# Altium integrated library 885012004001_Altium_WCAP-CSGP_rev24c.IntLib: 1002 symbols (part 10 of 21)
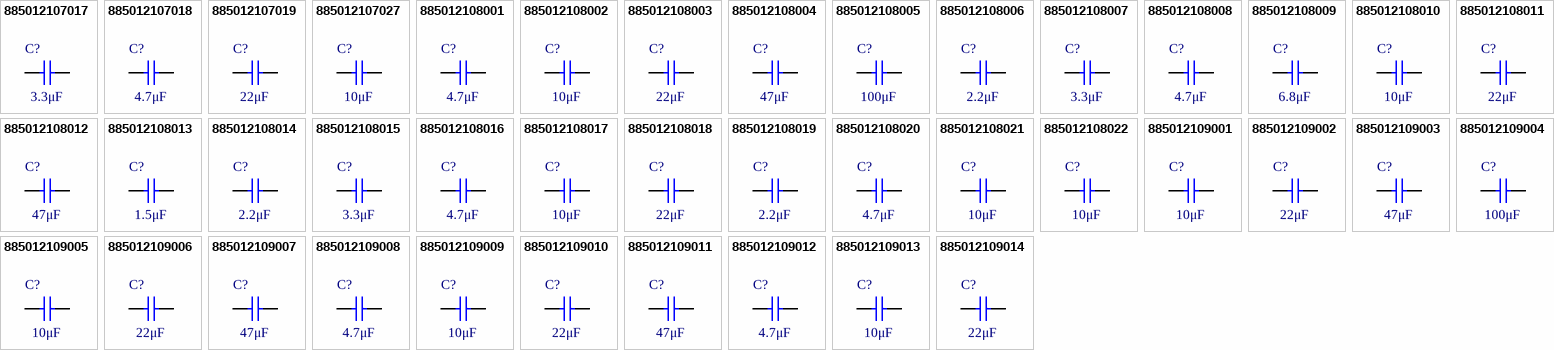
[diagram p34: symbols 885012107017 to 885012109014]

## 885012108005
designator C?, comment 100μF
WCAP-CSGP Multilayer Ceramic Chip Capacitor, General Purpose, size 1206, X5R, 100μF, 6.3V; Manufacturer Part Number: 885012108005; Manufacturer: Wurth Elektronik; Case/Size Code: 1206; Capacitance Tolerance: +/-20%; Dissipation Factor: 10%; Insulation Resistance: 0.001GΩ; Technical Reference: X5R1206107M6R3DFCT10000; Category: Multilayer Ceramic Chip Capacitors; Match Code: WCAP-CSGP; ComponentLink1Description: Website Link; ComponentLink1URL: https://www.we-online.com/redexpert/article/885012108005?ad; ComponentLink2Description: Datasheet Link; ComponentLink2URL: https://www.we-online.com/redexpert/spec/885012108005?ad; Mount: Surface Mount; Min Operating Temperature: -55°C; Max Operating Temperature: 85°C; Packaging: Tape and Reel; Length: 3.2mm; Width: 1.6mm; Height: 1.6mm; Capacitance: 100μF; Ceramic Type: X5R; Rated Voltage (DC): 6.3V
footprint WCAP-CSGP_1206_L3.2W1.6H1.6
simulation model 1206_885012108005_100uF
pins: 1, 2

## 885012108006
designator C?, comment 2.2μF
WCAP-CSGP Multilayer Ceramic Chip Capacitor, General Purpose, size 1206, X5R, 2.2μF, 10V; Manufacturer Part Number: 885012108006; Manufacturer: Wurth Elektronik; Case/Size Code: 1206; Capacitance Tolerance: +/-20%; Dissipation Factor: 10%; Insulation Resistance: 0.2GΩ; Technical Reference: X5R1206225M010DFCT10000; Category: Multilayer Ceramic Chip Capacitors; Match Code: WCAP-CSGP; ComponentLink1Description: Website Link; ComponentLink1URL: https://www.we-online.com/redexpert/article/885012108006?ad; ComponentLink2Description: Datasheet Link; ComponentLink2URL: https://www.we-online.com/redexpert/spec/885012108006?ad; Mount: Surface Mount; Min Operating Temperature: -55°C; Max Operating Temperature: 85°C; Packaging: Tape and Reel; Length: 3.2mm; Width: 1.6mm; Height: 1.15mm; Capacitance: 2.2μF; Ceramic Type: X5R; Rated Voltage (DC): 10V
footprint WCAP-CSGP_1206_L3.2W1.6H1.15
simulation model 1206_885012108006_2.2uF
pins: 1, 2

## 885012108007
designator C?, comment 3.3μF
WCAP-CSGP Multilayer Ceramic Chip Capacitor, General Purpose, size 1206, X5R, 3.3μF, 10V; Manufacturer Part Number: 885012108007; Manufacturer: Wurth Elektronik; Case/Size Code: 1206; Capacitance Tolerance: +/-20%; Dissipation Factor: 10%; Insulation Resistance: 0.2GΩ; Technical Reference: X5R1206335M010DFCT10000; Category: Multilayer Ceramic Chip Capacitors; Match Code: WCAP-CSGP; ComponentLink1Description: Website Link; ComponentLink1URL: https://www.we-online.com/redexpert/article/885012108007?ad; ComponentLink2Description: Datasheet Link; ComponentLink2URL: https://www.we-online.com/redexpert/spec/885012108007?ad; Mount: Surface Mount; Min Operating Temperature: -55°C; Max Operating Temperature: 85°C; Packaging: Tape and Reel; Length: 3.2mm; Width: 1.6mm; Height: 1.6mm; Capacitance: 3.3μF; Ceramic Type: X5R; Rated Voltage (DC): 10V
footprint WCAP-CSGP_1206_L3.2W1.6H1.6
simulation model 1206_885012108007_3.3uF
pins: 1, 2

## 885012108008
designator C?, comment 4.7μF
WCAP-CSGP Multilayer Ceramic Chip Capacitor, General Purpose, size 1206, X5R, 4.7μF, 10V; Manufacturer Part Number: 885012108008; Manufacturer: Wurth Elektronik; Case/Size Code: 1206; Capacitance Tolerance: +/-20%; Dissipation Factor: 10%; Insulation Resistance: 0.02GΩ; Technical Reference: X5R1206475M010DFCT10000; Category: Multilayer Ceramic Chip Capacitors; Match Code: WCAP-CSGP; ComponentLink1Description: Website Link; ComponentLink1URL: https://www.we-online.com/redexpert/article/885012108008?ad; ComponentLink2Description: Datasheet Link; ComponentLink2URL: https://www.we-online.com/redexpert/spec/885012108008?ad; Mount: Surface Mount; Min Operating Temperature: -55°C; Max Operating Temperature: 85°C; Packaging: Tape and Reel; Length: 3.2mm; Width: 1.6mm; Height: 1.6mm; Capacitance: 4.7μF; Ceramic Type: X5R; Rated Voltage (DC): 10V
footprint WCAP-CSGP_1206_L3.2W1.6H1.6
simulation model 1206_885012108008_4.7uF
pins: 1, 2

## 885012108009
designator C?, comment 6.8μF
WCAP-CSGP Multilayer Ceramic Chip Capacitor, General Purpose, size 1206, X5R, 6.8μF, 10V; Manufacturer Part Number: 885012108009; Manufacturer: Wurth Elektronik; Case/Size Code: 1206; Capacitance Tolerance: +/-20%; Dissipation Factor: 10%; Insulation Resistance: 0.02GΩ; Technical Reference: X5R1206685M010DFCT10000; Category: Multilayer Ceramic Chip Capacitors; Match Code: WCAP-CSGP; ComponentLink1Description: Website Link; ComponentLink1URL: https://www.we-online.com/redexpert/article/885012108009?ad; ComponentLink2Description: Datasheet Link; ComponentLink2URL: https://www.we-online.com/redexpert/spec/885012108009?ad; Mount: Surface Mount; Min Operating Temperature: -55°C; Max Operating Temperature: 85°C; Packaging: Tape and Reel; Length: 3.2mm; Width: 1.6mm; Height: 1.6mm; Capacitance: 6.8μF; Ceramic Type: X5R; Rated Voltage (DC): 10V
footprint WCAP-CSGP_1206_L3.2W1.6H1.6
simulation model 1206_885012108009_6.8uF
pins: 1, 2

## 885012108010
designator C?, comment 10μF
WCAP-CSGP Multilayer Ceramic Chip Capacitor, General Purpose, size 1206, X5R, 10μF, 10V; Manufacturer Part Number: 885012108010; Manufacturer: Wurth Elektronik; Case/Size Code: 1206; Capacitance Tolerance: +/-20%; Dissipation Factor: 10%; Insulation Resistance: 0.01GΩ; Technical Reference: X5R1206106M010DFCT10000; Category: Multilayer Ceramic Chip Capacitors; Match Code: WCAP-CSGP; ComponentLink1Description: Website Link; ComponentLink1URL: https://www.we-online.com/redexpert/article/885012108010?ad; ComponentLink2Description: Datasheet Link; ComponentLink2URL: https://www.we-online.com/redexpert/spec/885012108010?ad; Mount: Surface Mount; Min Operating Temperature: -55°C; Max Operating Temperature: 85°C; Packaging: Tape and Reel; Length: 3.2mm; Width: 1.6mm; Height: 1.6mm; Capacitance: 10μF; Ceramic Type: X5R; Rated Voltage (DC): 10V
footprint WCAP-CSGP_1206_L3.2W1.6H1.6
simulation model 1206_885012108010_10uF
pins: 1, 2

## 885012108011
designator C?, comment 22μF
WCAP-CSGP Multilayer Ceramic Chip Capacitor, General Purpose, size 1206, X5R, 22μF, 10V; Manufacturer Part Number: 885012108011; Manufacturer: Wurth Elektronik; Case/Size Code: 1206; Capacitance Tolerance: +/-20%; Dissipation Factor: 10%; Insulation Resistance: 0.005GΩ; Technical Reference: X5R1206226M010DFCT10000; Category: Multilayer Ceramic Chip Capacitors; Match Code: WCAP-CSGP; ComponentLink1Description: Website Link; ComponentLink1URL: https://www.we-online.com/redexpert/article/885012108011?ad; ComponentLink2Description: Datasheet Link; ComponentLink2URL: https://www.we-online.com/redexpert/spec/885012108011?ad; Mount: Surface Mount; Min Operating Temperature: -55°C; Max Operating Temperature: 85°C; Packaging: Tape and Reel; Length: 3.2mm; Width: 1.6mm; Height: 1.6mm; Capacitance: 22μF; Ceramic Type: X5R; Rated Voltage (DC): 10V
footprint WCAP-CSGP_1206_L3.2W1.6H1.6
simulation model 1206_885012108011_22uF
pins: 1, 2

## 885012108012
designator C?, comment 47μF
WCAP-CSGP Multilayer Ceramic Chip Capacitor, General Purpose, size 1206, X5R, 47μF, 10V; Manufacturer Part Number: 885012108012; Manufacturer: Wurth Elektronik; Case/Size Code: 1206; Capacitance Tolerance: +/-20%; Dissipation Factor: 10%; Insulation Resistance: 0.002GΩ; Technical Reference: X5R1206476M010DFCT10000; Category: Multilayer Ceramic Chip Capacitors; Match Code: WCAP-CSGP; ComponentLink1Description: Website Link; ComponentLink1URL: https://www.we-online.com/redexpert/article/885012108012?ad; ComponentLink2Description: Datasheet Link; ComponentLink2URL: https://www.we-online.com/redexpert/spec/885012108012?ad; Mount: Surface Mount; Min Operating Temperature: -55°C; Max Operating Temperature: 85°C; Packaging: Tape and Reel; Length: 3.2mm; Width: 1.6mm; Height: 1.6mm; Capacitance: 47μF; Ceramic Type: X5R; Rated Voltage (DC): 10V
footprint WCAP-CSGP_1206_L3.2W1.6H1.6
simulation model 1206_885012108012_47uF
pins: 1, 2

## 885012108013
designator C?, comment 1.5μF
WCAP-CSGP Multilayer Ceramic Chip Capacitor, General Purpose, size 1206, X5R, 1.5μF, 16V; Manufacturer Part Number: 885012108013; Manufacturer: Wurth Elektronik; Case/Size Code: 1206; Capacitance Tolerance: +/-20%; Dissipation Factor: 3.5%; Insulation Resistance: 0.3GΩ; Technical Reference: X5R1206155M016DFCT10000; Category: Multilayer Ceramic Chip Capacitors; Match Code: WCAP-CSGP; ComponentLink1Description: Website Link; ComponentLink1URL: https://www.we-online.com/redexpert/article/885012108013?ad; ComponentLink2Description: Datasheet Link; ComponentLink2URL: https://www.we-online.com/redexpert/spec/885012108013?ad; Mount: Surface Mount; Min Operating Temperature: -55°C; Max Operating Temperature: 85°C; Packaging: Tape and Reel; Length: 3.2mm; Width: 1.6mm; Height: 1.15mm; Capacitance: 1.5μF; Ceramic Type: X5R; Rated Voltage (DC): 16V
footprint WCAP-CSGP_1206_L3.2W1.6H1.15
simulation model 1206_885012108013_1.5uF
pins: 1, 2

## 885012108014
designator C?, comment 2.2μF
WCAP-CSGP Multilayer Ceramic Chip Capacitor, General Purpose, size 1206, X5R, 2.2μF, 16V; Manufacturer Part Number: 885012108014; Manufacturer: Wurth Elektronik; Case/Size Code: 1206; Capacitance Tolerance: +/-20%; Dissipation Factor: 5%; Insulation Resistance: 0.2GΩ; Technical Reference: X5R1206225M016DFCT10000; Category: Multilayer Ceramic Chip Capacitors; Match Code: WCAP-CSGP; ComponentLink1Description: Website Link; ComponentLink1URL: https://www.we-online.com/redexpert/article/885012108014?ad; ComponentLink2Description: Datasheet Link; ComponentLink2URL: https://www.we-online.com/redexpert/spec/885012108014?ad; Mount: Surface Mount; Min Operating Temperature: -55°C; Max Operating Temperature: 85°C; Packaging: Tape and Reel; Length: 3.2mm; Width: 1.6mm; Height: 1.15mm; Capacitance: 2.2μF; Ceramic Type: X5R; Rated Voltage (DC): 16V
footprint WCAP-CSGP_1206_L3.2W1.6H1.15
simulation model 1206_885012108014_2.2uF
pins: 1, 2

## 885012108015
designator C?, comment 3.3μF
WCAP-CSGP Multilayer Ceramic Chip Capacitor, General Purpose, size 1206, X5R, 3.3μF, 16V; Manufacturer Part Number: 885012108015; Manufacturer: Wurth Elektronik; Case/Size Code: 1206; Capacitance Tolerance: +/-20%; Dissipation Factor: 5%; Insulation Resistance: 0.2GΩ; Technical Reference: X5R1206335M016DFCT10000; Category: Multilayer Ceramic Chip Capacitors; Match Code: WCAP-CSGP; ComponentLink1Description: Website Link; ComponentLink1URL: https://www.we-online.com/redexpert/article/885012108015?ad; ComponentLink2Description: Datasheet Link; ComponentLink2URL: https://www.we-online.com/redexpert/spec/885012108015?ad; Mount: Surface Mount; Min Operating Temperature: -55°C; Max Operating Temperature: 85°C; Packaging: Tape and Reel; Length: 3.2mm; Width: 1.6mm; Height: 1.6mm; Capacitance: 3.3μF; Ceramic Type: X5R; Rated Voltage (DC): 16V
footprint WCAP-CSGP_1206_L3.2W1.6H1.6
simulation model 1206_885012108015_3.3uF
pins: 1, 2

## 885012108016
designator C?, comment 4.7μF
WCAP-CSGP Multilayer Ceramic Chip Capacitor, General Purpose, size 1206, X5R, 4.7μF, 16V; Manufacturer Part Number: 885012108016; Manufacturer: Wurth Elektronik; Case/Size Code: 1206; Capacitance Tolerance: +/-20%; Dissipation Factor: 10%; Insulation Resistance: 0.1GΩ; Technical Reference: X5R1206475M016DFCT10000; Category: Multilayer Ceramic Chip Capacitors; Match Code: WCAP-CSGP; ComponentLink1Description: Website Link; ComponentLink1URL: https://www.we-online.com/redexpert/article/885012108016?ad; ComponentLink2Description: Datasheet Link; ComponentLink2URL: https://www.we-online.com/redexpert/spec/885012108016?ad; Mount: Surface Mount; Min Operating Temperature: -55°C; Max Operating Temperature: 85°C; Packaging: Tape and Reel; Length: 3.2mm; Width: 1.6mm; Height: 1.6mm; Capacitance: 4.7μF; Ceramic Type: X5R; Rated Voltage (DC): 16V
footprint WCAP-CSGP_1206_L3.2W1.6H1.6
simulation model 1206_885012108016_4.7uF
pins: 1, 2

## 885012108017
designator C?, comment 10μF
WCAP-CSGP Multilayer Ceramic Chip Capacitor, General Purpose, size 1206, X5R, 10μF, 16V; Manufacturer Part Number: 885012108017; Manufacturer: Wurth Elektronik; Case/Size Code: 1206; Capacitance Tolerance: +/-20%; Dissipation Factor: 10%; Insulation Resistance: 0.01GΩ; Technical Reference: X5R1206106M016DFCT10000; Category: Multilayer Ceramic Chip Capacitors; Match Code: WCAP-CSGP; ComponentLink1Description: Website Link; ComponentLink1URL: https://www.we-online.com/redexpert/article/885012108017?ad; ComponentLink2Description: Datasheet Link; ComponentLink2URL: https://www.we-online.com/redexpert/spec/885012108017?ad; Mount: Surface Mount; Min Operating Temperature: -55°C; Max Operating Temperature: 85°C; Packaging: Tape and Reel; Length: 3.2mm; Width: 1.6mm; Height: 1.6mm; Capacitance: 10μF; Ceramic Type: X5R; Rated Voltage (DC): 16V
footprint WCAP-CSGP_1206_L3.2W1.6H1.6
simulation model 1206_885012108017_10uF
pins: 1, 2

## 885012108018
designator C?, comment 22μF
WCAP-CSGP Multilayer Ceramic Chip Capacitor, General Purpose, size 1206, X5R, 22μF, 16V; Manufacturer Part Number: 885012108018; Manufacturer: Wurth Elektronik; Case/Size Code: 1206; Capacitance Tolerance: +/-20%; Dissipation Factor: 10%; Insulation Resistance: 0.005GΩ; Technical Reference: X5R1206226M016DFCT10000; Category: Multilayer Ceramic Chip Capacitors; Match Code: WCAP-CSGP; ComponentLink1Description: Website Link; ComponentLink1URL: https://www.we-online.com/redexpert/article/885012108018?ad; ComponentLink2Description: Datasheet Link; ComponentLink2URL: https://www.we-online.com/redexpert/spec/885012108018?ad; Mount: Surface Mount; Min Operating Temperature: -55°C; Max Operating Temperature: 85°C; Packaging: Tape and Reel; Length: 3.2mm; Width: 1.6mm; Height: 1.6mm; Capacitance: 22μF; Ceramic Type: X5R; Rated Voltage (DC): 16V
footprint WCAP-CSGP_1206_L3.2W1.6H1.6
simulation model 1206_885012108018_22uF
pins: 1, 2

## 885012108019
designator C?, comment 2.2μF
WCAP-CSGP Multilayer Ceramic Chip Capacitor, General Purpose, size 1206, X5R, 2.2μF, 25V; Manufacturer Part Number: 885012108019; Manufacturer: Wurth Elektronik; Case/Size Code: 1206; Capacitance Tolerance: +/-20%; Dissipation Factor: 3.5%; Insulation Resistance: 0.2GΩ; Technical Reference: X5R1206225M025DFCT10000; Category: Multilayer Ceramic Chip Capacitors; Match Code: WCAP-CSGP; ComponentLink1Description: Website Link; ComponentLink1URL: https://www.we-online.com/redexpert/article/885012108019?ad; ComponentLink2Description: Datasheet Link; ComponentLink2URL: https://www.we-online.com/redexpert/spec/885012108019?ad; Mount: Surface Mount; Min Operating Temperature: -55°C; Max Operating Temperature: 85°C; Packaging: Tape and Reel; Length: 3.2mm; Width: 1.6mm; Height: 1.6mm; Capacitance: 2.2μF; Ceramic Type: X5R; Rated Voltage (DC): 25V
footprint WCAP-CSGP_1206_L3.2W1.6H1.6
simulation model 1206_885012108019_2.2uF
pins: 1, 2

## 885012108020
designator C?, comment 4.7μF
WCAP-CSGP Multilayer Ceramic Chip Capacitor, General Purpose, size 1206, X5R, 4.7μF, 25V; Manufacturer Part Number: 885012108020; Manufacturer: Wurth Elektronik; Case/Size Code: 1206; Capacitance Tolerance: +/-20%; Dissipation Factor: 7%; Insulation Resistance: 0.1GΩ; Technical Reference: X5R1206475M025DFCT10000; Category: Multilayer Ceramic Chip Capacitors; Match Code: WCAP-CSGP; ComponentLink1Description: Website Link; ComponentLink1URL: https://www.we-online.com/redexpert/article/885012108020?ad; ComponentLink2Description: Datasheet Link; ComponentLink2URL: https://www.we-online.com/redexpert/spec/885012108020?ad; Mount: Surface Mount; Min Operating Temperature: -55°C; Max Operating Temperature: 85°C; Packaging: Tape and Reel; Length: 3.2mm; Width: 1.6mm; Height: 1.6mm; Capacitance: 4.7μF; Ceramic Type: X5R; Rated Voltage (DC): 25V
footprint WCAP-CSGP_1206_L3.2W1.6H1.6
simulation model 1206_885012108020_4.7uF
pins: 1, 2

## 885012108021
designator C?, comment 10μF
WCAP-CSGP Multilayer Ceramic Chip Capacitor, General Purpose, size 1206, X5R, 10μF, 25V; Manufacturer Part Number: 885012108021; Manufacturer: Wurth Elektronik; Case/Size Code: 1206; Capacitance Tolerance: +/-20%; Dissipation Factor: 10%; Insulation Resistance: 0.01GΩ; Technical Reference: X5R1206106M025DFCT10000; Category: Multilayer Ceramic Chip Capacitors; Match Code: WCAP-CSGP; ComponentLink1Description: Website Link; ComponentLink1URL: https://www.we-online.com/redexpert/article/885012108021?ad; ComponentLink2Description: Datasheet Link; ComponentLink2URL: https://www.we-online.com/redexpert/spec/885012108021?ad; Mount: Surface Mount; Min Operating Temperature: -55°C; Max Operating Temperature: 85°C; Packaging: Tape and Reel; Length: 3.2mm; Width: 1.6mm; Height: 1.6mm; Capacitance: 10μF; Ceramic Type: X5R; Rated Voltage (DC): 25V
footprint WCAP-CSGP_1206_L3.2W1.6H1.6
simulation model 1206_885012108021_10uF
pins: 1, 2

## 885012108022
designator C?, comment 10μF
WCAP-CSGP Multilayer Ceramic Chip Capacitor, General Purpose, size 1206, X5R, 10μF, 50V; Manufacturer Part Number: 885012108022; Manufacturer: Wurth Elektronik; Case/Size Code: 1206; Capacitance Tolerance: +/-10%; Dissipation Factor: 10%; Insulation Resistance: 0.005GΩ; Technical Reference: X5R1206106K050DFCT10000; Category: Multilayer Ceramic Chip Capacitors; Match Code: WCAP-CSGP; ComponentLink1Description: Website Link; ComponentLink1URL: https://www.we-online.com/redexpert/article/885012108022?ad; ComponentLink2Description: Datasheet Link; ComponentLink2URL: https://www.we-online.com/redexpert/spec/885012108022?ad; Mount: Surface Mount; Min Operating Temperature: -55°C; Max Operating Temperature: 85°C; Packaging: Tape and Reel; Length: 3.2mm; Width: 1.6mm; Height: 1.6mm; Capacitance: 10μF; Ceramic Type: X5R; Rated Voltage (DC): 50V
footprint WCAP-CSGP_1206_L3.2W1.6H1.6
simulation model 1206_885012108022_10uF
pins: 1, 2

## 885012109001
designator C?, comment 10μF
WCAP-CSGP Multilayer Ceramic Chip Capacitor, General Purpose, size 1210, X5R, 10μF, 6V; Manufacturer Part Number: 885012109001; Manufacturer: Wurth Elektronik; Case/Size Code: 1210; Capacitance Tolerance: +/-20%; Dissipation Factor: 10%; Insulation Resistance: 0.01GΩ; Technical Reference: X5R1210106M6R3DFCT10000; Category: Multilayer Ceramic Chip Capacitors; Match Code: WCAP-CSGP; ComponentLink1Description: Website Link; ComponentLink1URL: https://www.we-online.com/redexpert/article/885012109001?ad; ComponentLink2Description: Datasheet Link; ComponentLink2URL: https://www.we-online.com/redexpert/spec/885012109001?ad; Mount: Surface Mount; Min Operating Temperature: -55°C; Max Operating Temperature: 85°C; Packaging: Tape and Reel; Length: 3.2mm; Width: 2.5mm; Height: 2mm; Capacitance: 10μF; Ceramic Type: X5R; Rated Voltage (DC): 6V
footprint WCAP-CSGP_1210_L3.2W2.5H2
simulation model 1210_885012109001_10uF
pins: 1, 2

## 885012109002
designator C?, comment 22μF
WCAP-CSGP Multilayer Ceramic Chip Capacitor, General Purpose, size 1210, X5R, 22μF, 6V; Manufacturer Part Number: 885012109002; Manufacturer: Wurth Elektronik; Case/Size Code: 1210; Capacitance Tolerance: +/-20%; Dissipation Factor: 10%; Insulation Resistance: 0.005GΩ; Technical Reference: X5R1210226M6R3DFCT10000; Category: Multilayer Ceramic Chip Capacitors; Match Code: WCAP-CSGP; ComponentLink1Description: Website Link; ComponentLink1URL: https://www.we-online.com/redexpert/article/885012109002?ad; ComponentLink2Description: Datasheet Link; ComponentLink2URL: https://www.we-online.com/redexpert/spec/885012109002?ad; Mount: Surface Mount; Min Operating Temperature: -55°C; Max Operating Temperature: 85°C; Packaging: Tape and Reel; Length: 3.2mm; Width: 2.5mm; Height: 2.5mm; Capacitance: 22μF; Ceramic Type: X5R; Rated Voltage (DC): 6V
footprint WCAP-CSGP_1210_L3.2W2.5H2.5
simulation model 1210_885012109002_22uF
pins: 1, 2

## 885012109003
designator C?, comment 47μF
WCAP-CSGP Multilayer Ceramic Chip Capacitor, General Purpose, size 1210, X5R, 47μF, 6V; Manufacturer Part Number: 885012109003; Manufacturer: Wurth Elektronik; Case/Size Code: 1210; Capacitance Tolerance: +/-20%; Dissipation Factor: 10%; Insulation Resistance: 0.002GΩ; Technical Reference: X5R1210476M6R3DFCT10000; Category: Multilayer Ceramic Chip Capacitors; Match Code: WCAP-CSGP; ComponentLink1Description: Website Link; ComponentLink1URL: https://www.we-online.com/redexpert/article/885012109003?ad; ComponentLink2Description: Datasheet Link; ComponentLink2URL: https://www.we-online.com/redexpert/spec/885012109003?ad; Mount: Surface Mount; Min Operating Temperature: -55°C; Max Operating Temperature: 85°C; Packaging: Tape and Reel; Length: 3.2mm; Width: 2.5mm; Height: 2.5mm; Capacitance: 47μF; Ceramic Type: X5R; Rated Voltage (DC): 6V
footprint WCAP-CSGP_1210_L3.2W2.5H2.5
simulation model 1210_885012109003_47uF
pins: 1, 2

## 885012109004
designator C?, comment 100μF
WCAP-CSGP Multilayer Ceramic Chip Capacitor, General Purpose, size 1210, X5R, 100μF, 6V; Manufacturer Part Number: 885012109004; Manufacturer: Wurth Elektronik; Case/Size Code: 1210; Capacitance Tolerance: +/-20%; Dissipation Factor: 10%; Insulation Resistance: 0.001GΩ; Technical Reference: X5R1210107M6R3DFCT10000; Category: Multilayer Ceramic Chip Capacitors; Match Code: WCAP-CSGP; ComponentLink1Description: Website Link; ComponentLink1URL: https://www.we-online.com/redexpert/article/885012109004?ad; ComponentLink2Description: Datasheet Link; ComponentLink2URL: https://www.we-online.com/redexpert/spec/885012109004?ad; Mount: Surface Mount; Min Operating Temperature: -55°C; Max Operating Temperature: 85°C; Packaging: Tape and Reel; Length: 3.2mm; Width: 2.5mm; Height: 2.5mm; Capacitance: 100μF; Ceramic Type: X5R; Rated Voltage (DC): 6V
footprint WCAP-CSGP_1210_L3.2W2.5H2.5
simulation model 1210_885012109004_100uF
pins: 1, 2

## 885012109005
designator C?, comment 10μF
WCAP-CSGP Multilayer Ceramic Chip Capacitor, General Purpose, size 1210, X5R, 10μF, 10V; Manufacturer Part Number: 885012109005; Manufacturer: Wurth Elektronik; Case/Size Code: 1210; Capacitance Tolerance: +/-20%; Dissipation Factor: 5%; Insulation Resistance: 0.05GΩ; Technical Reference: X5R1210106M010DFCT10000; Category: Multilayer Ceramic Chip Capacitors; Match Code: WCAP-CSGP; ComponentLink1Description: Website Link; ComponentLink1URL: https://www.we-online.com/redexpert/article/885012109005?ad; ComponentLink2Description: Datasheet Link; ComponentLink2URL: https://www.we-online.com/redexpert/spec/885012109005?ad; Mount: Surface Mount; Min Operating Temperature: -55°C; Max Operating Temperature: 85°C; Packaging: Tape and Reel; Length: 3.2mm; Width: 2.5mm; Height: 2mm; Capacitance: 10μF; Ceramic Type: X5R; Rated Voltage (DC): 10V
footprint WCAP-CSGP_1210_L3.2W2.5H2
simulation model 1210_885012109005_10uF
pins: 1, 2

## 885012109006
designator C?, comment 22μF
WCAP-CSGP Multilayer Ceramic Chip Capacitor, General Purpose, size 1210, X5R, 22μF, 10V; Manufacturer Part Number: 885012109006; Manufacturer: Wurth Elektronik; Case/Size Code: 1210; Capacitance Tolerance: +/-20%; Dissipation Factor: 10%; Insulation Resistance: 0.02GΩ; Technical Reference: X5R1210226M010DFCT10000; Category: Multilayer Ceramic Chip Capacitors; Match Code: WCAP-CSGP; ComponentLink1Description: Website Link; ComponentLink1URL: https://www.we-online.com/redexpert/article/885012109006?ad; ComponentLink2Description: Datasheet Link; ComponentLink2URL: https://www.we-online.com/redexpert/spec/885012109006?ad; Mount: Surface Mount; Min Operating Temperature: -55°C; Max Operating Temperature: 85°C; Packaging: Tape and Reel; Length: 3.2mm; Width: 2.5mm; Height: 2.5mm; Capacitance: 22μF; Ceramic Type: X5R; Rated Voltage (DC): 10V
footprint WCAP-CSGP_1210_L3.2W2.5H2.5
simulation model 1210_885012109006_22uF
pins: 1, 2

## 885012109007
designator C?, comment 47μF
WCAP-CSGP Multilayer Ceramic Chip Capacitor, General Purpose, size 1210, X5R, 47μF, 10V; Manufacturer Part Number: 885012109007; Manufacturer: Wurth Elektronik; Case/Size Code: 1210; Capacitance Tolerance: +/-20%; Dissipation Factor: 10%; Insulation Resistance: 0.002GΩ; Technical Reference: X5R1210476M010DFCT10000; Category: Multilayer Ceramic Chip Capacitors; Match Code: WCAP-CSGP; ComponentLink1Description: Website Link; ComponentLink1URL: https://www.we-online.com/redexpert/article/885012109007?ad; ComponentLink2Description: Datasheet Link; ComponentLink2URL: https://www.we-online.com/redexpert/spec/885012109007?ad; Mount: Surface Mount; Min Operating Temperature: -55°C; Max Operating Temperature: 85°C; Packaging: Tape and Reel; Length: 3.2mm; Width: 2.5mm; Height: 2.5mm; Capacitance: 47μF; Ceramic Type: X5R; Rated Voltage (DC): 10V
footprint WCAP-CSGP_1210_L3.2W2.5H2.5
simulation model 1210_885012109007_47uF
pins: 1, 2

## 885012109008
designator C?, comment 4.7μF
WCAP-CSGP Multilayer Ceramic Chip Capacitor, General Purpose, size 1210, X5R, 4.7μF, 16V; Manufacturer Part Number: 885012109008; Manufacturer: Wurth Elektronik; Case/Size Code: 1210; Capacitance Tolerance: +/-20%; Dissipation Factor: 5%; Insulation Resistance: 0.1GΩ; Technical Reference: X5R1210475M016DFCT10000; Category: Multilayer Ceramic Chip Capacitors; Match Code: WCAP-CSGP; ComponentLink1Description: Website Link; ComponentLink1URL: https://www.we-online.com/redexpert/article/885012109008?ad; ComponentLink2Description: Datasheet Link; ComponentLink2URL: https://www.we-online.com/redexpert/spec/885012109008?ad; Mount: Surface Mount; Min Operating Temperature: -55°C; Max Operating Temperature: 85°C; Packaging: Tape and Reel; Length: 3.2mm; Width: 2.5mm; Height: 2mm; Capacitance: 4.7μF; Ceramic Type: X5R; Rated Voltage (DC): 16V
footprint WCAP-CSGP_1210_L3.2W2.5H2
simulation model 1210_885012109008_4.7uF
pins: 1, 2

## 885012109009
designator C?, comment 10μF
WCAP-CSGP Multilayer Ceramic Chip Capacitor, General Purpose, size 1210, X5R, 10μF, 16V; Manufacturer Part Number: 885012109009; Manufacturer: Wurth Elektronik; Case/Size Code: 1210; Capacitance Tolerance: +/-20%; Dissipation Factor: 5%; Insulation Resistance: 0.05GΩ; Technical Reference: X5R1210106M016DFCT10000; Category: Multilayer Ceramic Chip Capacitors; Match Code: WCAP-CSGP; ComponentLink1Description: Website Link; ComponentLink1URL: https://www.we-online.com/redexpert/article/885012109009?ad; ComponentLink2Description: Datasheet Link; ComponentLink2URL: https://www.we-online.com/redexpert/spec/885012109009?ad; Mount: Surface Mount; Min Operating Temperature: -55°C; Max Operating Temperature: 85°C; Packaging: Tape and Reel; Length: 3.2mm; Width: 2.5mm; Height: 2mm; Capacitance: 10μF; Ceramic Type: X5R; Rated Voltage (DC): 16V
footprint WCAP-CSGP_1210_L3.2W2.5H2
simulation model 1210_885012109009_10uF
pins: 1, 2

## 885012109010
designator C?, comment 22μF
WCAP-CSGP Multilayer Ceramic Chip Capacitor, General Purpose, size 1210, X5R, 22μF, 16V; Manufacturer Part Number: 885012109010; Manufacturer: Wurth Elektronik; Case/Size Code: 1210; Capacitance Tolerance: +/-20%; Dissipation Factor: 10%; Insulation Resistance: 0.02GΩ; Technical Reference: X5R1210226M016DFCT10000; Category: Multilayer Ceramic Chip Capacitors; Match Code: WCAP-CSGP; ComponentLink1Description: Website Link; ComponentLink1URL: https://www.we-online.com/redexpert/article/885012109010?ad; ComponentLink2Description: Datasheet Link; ComponentLink2URL: https://www.we-online.com/redexpert/spec/885012109010?ad; Mount: Surface Mount; Min Operating Temperature: -55°C; Max Operating Temperature: 85°C; Packaging: Tape and Reel; Length: 3.2mm; Width: 2.5mm; Height: 2.5mm; Capacitance: 22μF; Ceramic Type: X5R; Rated Voltage (DC): 16V
footprint WCAP-CSGP_1210_L3.2W2.5H2.5
simulation model 1210_885012109010_22uF
pins: 1, 2

## 885012109011
designator C?, comment 47μF
WCAP-CSGP Multilayer Ceramic Chip Capacitor, General Purpose, size 1210, X5R, 47μF, 16V; Manufacturer Part Number: 885012109011; Manufacturer: Wurth Elektronik; Case/Size Code: 1210; Capacitance Tolerance: +/-20%; Dissipation Factor: 10%; Insulation Resistance: 0.002GΩ; Technical Reference: X5R1210476M016DFCT10000; Category: Multilayer Ceramic Chip Capacitors; Match Code: WCAP-CSGP; ComponentLink1Description: Website Link; ComponentLink1URL: https://www.we-online.com/redexpert/article/885012109011?ad; ComponentLink2Description: Datasheet Link; ComponentLink2URL: https://www.we-online.com/redexpert/spec/885012109011?ad; Mount: Surface Mount; Min Operating Temperature: -55°C; Max Operating Temperature: 85°C; Packaging: Tape and Reel; Length: 3.2mm; Width: 2.5mm; Height: 2.5mm; Capacitance: 47μF; Ceramic Type: X5R; Rated Voltage (DC): 16V
footprint WCAP-CSGP_1210_L3.2W2.5H2.5
simulation model 1210_885012109011_47uF
pins: 1, 2

## 885012109012
designator C?, comment 4.7μF
WCAP-CSGP Multilayer Ceramic Chip Capacitor, General Purpose, size 1210, X5R, 4.7μF, 25V; Manufacturer Part Number: 885012109012; Manufacturer: Wurth Elektronik; Case/Size Code: 1210; Capacitance Tolerance: +/-20%; Dissipation Factor: 3.5%; Insulation Resistance: 0.1GΩ; Technical Reference: X5R1210475M025DFCT10000; Category: Multilayer Ceramic Chip Capacitors; Match Code: WCAP-CSGP; ComponentLink1Description: Website Link; ComponentLink1URL: https://www.we-online.com/redexpert/article/885012109012?ad; ComponentLink2Description: Datasheet Link; ComponentLink2URL: https://www.we-online.com/redexpert/spec/885012109012?ad; Mount: Surface Mount; Min Operating Temperature: -55°C; Max Operating Temperature: 85°C; Packaging: Tape and Reel; Length: 3.2mm; Width: 2.5mm; Height: 2mm; Capacitance: 4.7μF; Ceramic Type: X5R; Rated Voltage (DC): 25V
footprint WCAP-CSGP_1210_L3.2W2.5H2
simulation model 1210_885012109012_4.7uF
pins: 1, 2

## 885012109013
designator C?, comment 10μF
WCAP-CSGP Multilayer Ceramic Chip Capacitor, General Purpose, size 1210, X5R, 10μF, 25V; Manufacturer Part Number: 885012109013; Manufacturer: Wurth Elektronik; Case/Size Code: 1210; Capacitance Tolerance: +/-20%; Dissipation Factor: 10%; Insulation Resistance: 0.01GΩ; Technical Reference: X5R1210106M025DFCT10000; Category: Multilayer Ceramic Chip Capacitors; Match Code: WCAP-CSGP; ComponentLink1Description: Website Link; ComponentLink1URL: https://www.we-online.com/redexpert/article/885012109013?ad; ComponentLink2Description: Datasheet Link; ComponentLink2URL: https://www.we-online.com/redexpert/spec/885012109013?ad; Mount: Surface Mount; Min Operating Temperature: -55°C; Max Operating Temperature: 85°C; Packaging: Tape and Reel; Length: 3.2mm; Width: 2.5mm; Height: 2mm; Capacitance: 10μF; Ceramic Type: X5R; Rated Voltage (DC): 25V
footprint WCAP-CSGP_1210_L3.2W2.5H2
simulation model 1210_885012109013_10uF
pins: 1, 2

## 885012109014
designator C?, comment 22μF
WCAP-CSGP Multilayer Ceramic Chip Capacitor, General Purpose, size 1210, X5R, 22μF, 25V; Manufacturer Part Number: 885012109014; Manufacturer: Wurth Elektronik; Case/Size Code: 1210; Capacitance Tolerance: +/-20%; Dissipation Factor: 10%; Insulation Resistance: 0.005GΩ; Technical Reference: X5R1210226M025DFCT10000; Category: Multilayer Ceramic Chip Capacitors; Match Code: WCAP-CSGP; ComponentLink1Description: Website Link; ComponentLink1URL: https://www.we-online.com/redexpert/article/885012109014?ad; ComponentLink2Description: Datasheet Link; ComponentLink2URL: https://www.we-online.com/redexpert/spec/885012109014?ad; Mount: Surface Mount; Min Operating Temperature: -55°C; Max Operating Temperature: 85°C; Packaging: Tape and Reel; Length: 3.2mm; Width: 2.5mm; Height: 2.5mm; Capacitance: 22μF; Ceramic Type: X5R; Rated Voltage (DC): 25V
footprint WCAP-CSGP_1210_L3.2W2.5H2.5
simulation model 1210_885012109014_22uF
pins: 1, 2

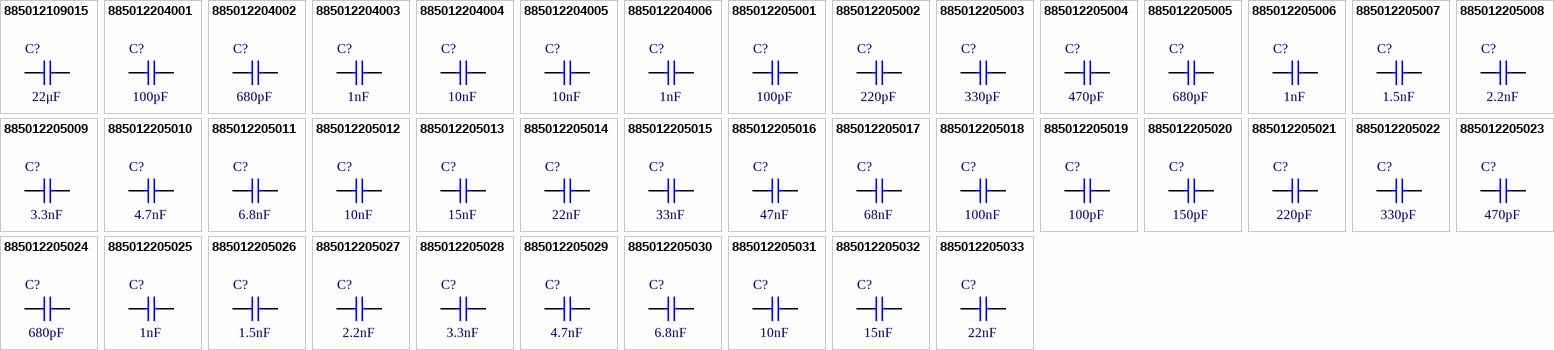
[diagram p12: symbols 885012109015 to 885012205033]

## 885012109015
designator C?, comment 22μF
WCAP-CSGP Multilayer Ceramic Chip Capacitor, General Purpose, size 1210, X5R Class II, 22μF, 25V; Manufacturer Part Number: 885012109015; Manufacturer: Wurth Elektronik; Case/Size Code: 1210; Capacitance Tolerance: +/-10%; Dissipation Factor: 10%; Insulation Resistance: 0.005GΩ; Technical Reference: X5R1210226K025DFCT10000; Category: Multilayer Ceramic Chip Capacitors; Match Code: WCAP-CSGP; ComponentLink1Description: Website Link; ComponentLink1URL: https://www.we-online.com/redexpert/article/885012109015?ad; ComponentLink2Description: Datasheet Link; ComponentLink2URL: https://www.we-online.com/redexpert/spec/885012109015?ad; Mount: Surface Mount; Min Operating Temperature: -55°C; Max Operating Temperature: 85°C; Packaging: Tape and Reel; Length: 3.2mm; Width: 2.5mm; Height: 2.5mm; Capacitance: 22μF; Ceramic Type: X5R Class II; Rated Voltage (DC): 25V
footprint WCAP-CSGP_1210_L3.2W2.5H2.5
simulation model 1210_885012109015_22uF
pins: 1, 2

## 885012204001
designator C?, comment 100pF
WCAP-CSGP Multilayer Ceramic Chip Capacitor, General Purpose, size 0201, X7R Class II, 100pF, 50V; Manufacturer Part Number: 885012204001; Manufacturer: Wurth Elektronik; Case/Size Code: 0201; Capacitance Tolerance: +/-10%; Dissipation Factor: 3%; Insulation Resistance: 10GΩ; Technical Reference: X7R0201101K050DFCT10000; Category: Multilayer Ceramic Chip Capacitors; Match Code: WCAP-CSGP; ComponentLink1Description: Website Link; ComponentLink1URL: https://www.we-online.com/redexpert/article/885012204001?ad; ComponentLink2Description: Datasheet Link; ComponentLink2URL: https://www.we-online.com/redexpert/spec/885012204001?ad; Mount: Surface Mount; Min Operating Temperature: -55°C; Max Operating Temperature: 125°C; Packaging: Tape and Reel; Length: 0.6mm; Width: 0.3mm; Height: 0.3mm; Capacitance: 100pF; Ceramic Type: X7R Class II; Rated Voltage (DC): 50V
footprint WCAP-CSGP_0201_L0.6W0.3H0.3
simulation model 0201_885012204001_100pF
pins: 1, 2

## 885012204002
designator C?, comment 680pF
WCAP-CSGP Multilayer Ceramic Chip Capacitor, General Purpose, size 0201, X7R Class II, 680pF, 50V; Manufacturer Part Number: 885012204002; Manufacturer: Wurth Elektronik; Case/Size Code: 0201; Capacitance Tolerance: +/-10%; Dissipation Factor: 3%; Insulation Resistance: 10GΩ; Technical Reference: X7R0201681K050DFCT10000; Category: Multilayer Ceramic Chip Capacitors; Match Code: WCAP-CSGP; ComponentLink1Description: Website Link; ComponentLink1URL: https://www.we-online.com/redexpert/article/885012204002?ad; ComponentLink2Description: Datasheet Link; ComponentLink2URL: https://www.we-online.com/redexpert/spec/885012204002?ad; Mount: Surface Mount; Min Operating Temperature: -55°C; Max Operating Temperature: 125°C; Packaging: Tape and Reel; Length: 0.6mm; Width: 0.3mm; Height: 0.3mm; Capacitance: 680pF; Ceramic Type: X7R Class II; Rated Voltage (DC): 50V
footprint WCAP-CSGP_0201_L0.6W0.3H0.3
simulation model 0201_885012204002_680pF
pins: 1, 2

## 885012204003
designator C?, comment 1nF
WCAP-CSGP Multilayer Ceramic Chip Capacitor, General Purpose, size 0201, X7R Class II, 1nF, 50V; Manufacturer Part Number: 885012204003; Manufacturer: Wurth Elektronik; Case/Size Code: 0201; Capacitance Tolerance: +/-10%; Dissipation Factor: 3%; Insulation Resistance: 10GΩ; Technical Reference: X7R0201102K050DFCT10000; Category: Multilayer Ceramic Chip Capacitors; Match Code: WCAP-CSGP; ComponentLink1Description: Website Link; ComponentLink1URL: https://www.we-online.com/redexpert/article/885012204003?ad; ComponentLink2Description: Datasheet Link; ComponentLink2URL: https://www.we-online.com/redexpert/spec/885012204003?ad; Mount: Surface Mount; Min Operating Temperature: -55°C; Max Operating Temperature: 125°C; Packaging: Tape and Reel; Length: 0.6mm; Width: 0.3mm; Height: 0.3mm; Capacitance: 1nF; Ceramic Type: X7R Class II; Rated Voltage (DC): 50V
footprint WCAP-CSGP_0201_L0.6W0.3H0.3
simulation model 0201_885012204003_1nF
pins: 1, 2

## 885012204004
designator C?, comment 10nF
WCAP-CSGP Multilayer Ceramic Chip Capacitor, General Purpose, size 0201, X7R Class II, 10nF, 25V; Manufacturer Part Number: 885012204004; Manufacturer: Wurth Elektronik; Case/Size Code: 0201; Capacitance Tolerance: +/-10%; Dissipation Factor: 10%; Insulation Resistance: 10GΩ; Technical Reference: X7R0201103K025DFCT10000; Category: Multilayer Ceramic Chip Capacitors; Match Code: WCAP-CSGP; ComponentLink1Description: Website Link; ComponentLink1URL: https://www.we-online.com/redexpert/article/885012204004?ad; ComponentLink2Description: Datasheet Link; ComponentLink2URL: https://www.we-online.com/redexpert/spec/885012204004?ad; Mount: Surface Mount; Min Operating Temperature: -55°C; Max Operating Temperature: 125°C; Packaging: Tape and Reel; Length: 0.6mm; Width: 0.3mm; Height: 0.3mm; Capacitance: 10nF; Ceramic Type: X7R Class II; Rated Voltage (DC): 25V
footprint WCAP-CSGP_0201_L0.6W0.3H0.3
simulation model 0201_885012204004_10nF
pins: 1, 2

## 885012204005
designator C?, comment 10nF
WCAP-CSGP Multilayer Ceramic Chip Capacitor, General Purpose, size 0201, X7R Class II, 10nF, 10V; Manufacturer Part Number: 885012204005; Manufacturer: Wurth Elektronik; Case/Size Code: 0201; Capacitance Tolerance: +/-10%; Dissipation Factor: 5%; Insulation Resistance: 10GΩ; Technical Reference: X7R0201103K010DFCT10000; Category: Multilayer Ceramic Chip Capacitors; Match Code: WCAP-CSGP; ComponentLink1Description: Website Link; ComponentLink1URL: https://www.we-online.com/redexpert/article/885012204005?ad; ComponentLink2Description: Datasheet Link; ComponentLink2URL: https://www.we-online.com/redexpert/spec/885012204005?ad; Mount: Surface Mount; Min Operating Temperature: -55°C; Max Operating Temperature: 125°C; Packaging: Tape and Reel; Length: 0.6mm; Width: 0.3mm; Height: 0.3mm; Capacitance: 10nF; Ceramic Type: X7R Class II; Rated Voltage (DC): 10V
footprint WCAP-CSGP_0201_L0.6W0.3H0.3
simulation model 0201_885012204005_10nF
pins: 1, 2

## 885012204006
designator C?, comment 1nF
WCAP-CSGP Multilayer Ceramic Chip Capacitor, General Purpose, size 0201, X7R Class II, 1nF, 25V; Manufacturer Part Number: 885012204006; Manufacturer: Wurth Elektronik; Case/Size Code: 0201; Capacitance Tolerance: +/-10%; Dissipation Factor: 3.5%; Insulation Resistance: 10GΩ; Technical Reference: X7R0201102K025DFCT10000; Category: Multilayer Ceramic Chip Capacitors; Match Code: WCAP-CSGP; ComponentLink1Description: Website Link; ComponentLink1URL: https://www.we-online.com/redexpert/article/885012204006?ad; ComponentLink2Description: Datasheet Link; ComponentLink2URL: https://www.we-online.com/redexpert/spec/885012204006?ad; Mount: Surface Mount; Min Operating Temperature: -55°C; Max Operating Temperature: 125°C; Packaging: Tape and Reel; Length: 0.6mm; Width: 0.3mm; Height: 0.3mm; Capacitance: 1nF; Ceramic Type: X7R Class II; Rated Voltage (DC): 25V
footprint WCAP-CSGP_0201_L0.6W0.3H0.3
simulation model 0201_885012204006_1nF
pins: 1, 2

## 885012205001
designator C?, comment 100pF
WCAP-CSGP Multilayer Ceramic Chip Capacitor, General Purpose, size 0402, X7R, 100pF, 10V; Manufacturer Part Number: 885012205001; Manufacturer: Wurth Elektronik; Case/Size Code: 0402; Capacitance Tolerance: +/-10%; Dissipation Factor: 5%; Insulation Resistance: 10GΩ; Technical Reference: X7R0402101K010DFCT10000; Category: Multilayer Ceramic Chip Capacitors; Match Code: WCAP-CSGP; ComponentLink1Description: Website Link; ComponentLink1URL: https://www.we-online.com/redexpert/article/885012205001?ad; ComponentLink2Description: Datasheet Link; ComponentLink2URL: https://www.we-online.com/redexpert/spec/885012205001?ad; Mount: Surface Mount; Min Operating Temperature: -55°C; Max Operating Temperature: 125°C; Packaging: Tape and Reel; Length: 1mm; Width: 0.5mm; Height: 0.5mm; Capacitance: 100pF; Ceramic Type: X7R; Rated Voltage (DC): 10V
footprint WCAP-CSGP_0402_L1W0.5H0.5
simulation model 0402_885012205001_100pF
pins: 1, 2

## 885012205002
designator C?, comment 220pF
WCAP-CSGP Multilayer Ceramic Chip Capacitor, General Purpose, size 0402, X7R, 220pF, 10V; Manufacturer Part Number: 885012205002; Manufacturer: Wurth Elektronik; Case/Size Code: 0402; Capacitance Tolerance: +/-10%; Dissipation Factor: 5%; Insulation Resistance: 10GΩ; Technical Reference: X7R0402221K010DFCT10000; Category: Multilayer Ceramic Chip Capacitors; Match Code: WCAP-CSGP; ComponentLink1Description: Website Link; ComponentLink1URL: https://www.we-online.com/redexpert/article/885012205002?ad; ComponentLink2Description: Datasheet Link; ComponentLink2URL: https://www.we-online.com/redexpert/spec/885012205002?ad; Mount: Surface Mount; Min Operating Temperature: -55°C; Max Operating Temperature: 125°C; Packaging: Tape and Reel; Length: 1mm; Width: 0.5mm; Height: 0.5mm; Capacitance: 220pF; Ceramic Type: X7R; Rated Voltage (DC): 10V
footprint WCAP-CSGP_0402_L1W0.5H0.5
simulation model 0402_885012205002_220pF
pins: 1, 2

## 885012205003
designator C?, comment 330pF
WCAP-CSGP Multilayer Ceramic Chip Capacitor, General Purpose, size 0402, X7R, 330pF, 10V; Manufacturer Part Number: 885012205003; Manufacturer: Wurth Elektronik; Case/Size Code: 0402; Capacitance Tolerance: +/-10%; Dissipation Factor: 5%; Insulation Resistance: 10GΩ; Technical Reference: X7R0402331K010DFCT10000; Category: Multilayer Ceramic Chip Capacitors; Match Code: WCAP-CSGP; ComponentLink1Description: Website Link; ComponentLink1URL: https://www.we-online.com/redexpert/article/885012205003?ad; ComponentLink2Description: Datasheet Link; ComponentLink2URL: https://www.we-online.com/redexpert/spec/885012205003?ad; Mount: Surface Mount; Min Operating Temperature: -55°C; Max Operating Temperature: 125°C; Packaging: Tape and Reel; Length: 1mm; Width: 0.5mm; Height: 0.5mm; Capacitance: 330pF; Ceramic Type: X7R; Rated Voltage (DC): 10V
footprint WCAP-CSGP_0402_L1W0.5H0.5
simulation model 0402_885012205003_330pF
pins: 1, 2

## 885012205004
designator C?, comment 470pF
WCAP-CSGP Multilayer Ceramic Chip Capacitor, General Purpose, size 0402, X7R, 470pF, 10V; Manufacturer Part Number: 885012205004; Manufacturer: Wurth Elektronik; Case/Size Code: 0402; Capacitance Tolerance: +/-10%; Dissipation Factor: 5%; Insulation Resistance: 10GΩ; Technical Reference: X7R0402471K010DFCT10000; Category: Multilayer Ceramic Chip Capacitors; Match Code: WCAP-CSGP; ComponentLink1Description: Website Link; ComponentLink1URL: https://www.we-online.com/redexpert/article/885012205004?ad; ComponentLink2Description: Datasheet Link; ComponentLink2URL: https://www.we-online.com/redexpert/spec/885012205004?ad; Mount: Surface Mount; Min Operating Temperature: -55°C; Max Operating Temperature: 125°C; Packaging: Tape and Reel; Length: 1mm; Width: 0.5mm; Height: 0.5mm; Capacitance: 470pF; Ceramic Type: X7R; Rated Voltage (DC): 10V
footprint WCAP-CSGP_0402_L1W0.5H0.5
simulation model 0402_885012205004_470pF
pins: 1, 2

## 885012205005
designator C?, comment 680pF
WCAP-CSGP Multilayer Ceramic Chip Capacitor, General Purpose, size 0402, X7R, 680pF, 10V; Manufacturer Part Number: 885012205005; Manufacturer: Wurth Elektronik; Case/Size Code: 0402; Capacitance Tolerance: +/-10%; Dissipation Factor: 5%; Insulation Resistance: 10GΩ; Technical Reference: X7R0402681K010DFCT10000; Category: Multilayer Ceramic Chip Capacitors; Match Code: WCAP-CSGP; ComponentLink1Description: Website Link; ComponentLink1URL: https://www.we-online.com/redexpert/article/885012205005?ad; ComponentLink2Description: Datasheet Link; ComponentLink2URL: https://www.we-online.com/redexpert/spec/885012205005?ad; Mount: Surface Mount; Min Operating Temperature: -55°C; Max Operating Temperature: 125°C; Packaging: Tape and Reel; Length: 1mm; Width: 0.5mm; Height: 0.5mm; Capacitance: 680pF; Ceramic Type: X7R; Rated Voltage (DC): 10V
footprint WCAP-CSGP_0402_L1W0.5H0.5
simulation model 0402_885012205005_680pF
pins: 1, 2

## 885012205006
designator C?, comment 1nF
WCAP-CSGP Multilayer Ceramic Chip Capacitor, General Purpose, size 0402, X7R, 1nF, 10V; Manufacturer Part Number: 885012205006; Manufacturer: Wurth Elektronik; Case/Size Code: 0402; Capacitance Tolerance: +/-10%; Dissipation Factor: 5%; Insulation Resistance: 10GΩ; Technical Reference: X7R0402102K010DFCT10000; Category: Multilayer Ceramic Chip Capacitors; Match Code: WCAP-CSGP; ComponentLink1Description: Website Link; ComponentLink1URL: https://www.we-online.com/redexpert/article/885012205006?ad; ComponentLink2Description: Datasheet Link; ComponentLink2URL: https://www.we-online.com/redexpert/spec/885012205006?ad; Mount: Surface Mount; Min Operating Temperature: -55°C; Max Operating Temperature: 125°C; Packaging: Tape and Reel; Length: 1mm; Width: 0.5mm; Height: 0.5mm; Capacitance: 1nF; Ceramic Type: X7R; Rated Voltage (DC): 10V
footprint WCAP-CSGP_0402_L1W0.5H0.5
simulation model 0402_885012205006_1nF
pins: 1, 2

## 885012205007
designator C?, comment 1.5nF
WCAP-CSGP Multilayer Ceramic Chip Capacitor, General Purpose, size 0402, X7R, 1.5nF, 10V; Manufacturer Part Number: 885012205007; Manufacturer: Wurth Elektronik; Case/Size Code: 0402; Capacitance Tolerance: +/-10%; Dissipation Factor: 5%; Insulation Resistance: 10GΩ; Technical Reference: X7R0402152K010DFCT10000; Category: Multilayer Ceramic Chip Capacitors; Match Code: WCAP-CSGP; ComponentLink1Description: Website Link; ComponentLink1URL: https://www.we-online.com/redexpert/article/885012205007?ad; ComponentLink2Description: Datasheet Link; ComponentLink2URL: https://www.we-online.com/redexpert/spec/885012205007?ad; Mount: Surface Mount; Min Operating Temperature: -55°C; Max Operating Temperature: 125°C; Packaging: Tape and Reel; Length: 1mm; Width: 0.5mm; Height: 0.5mm; Capacitance: 1.5nF; Ceramic Type: X7R; Rated Voltage (DC): 10V
footprint WCAP-CSGP_0402_L1W0.5H0.5
simulation model 0402_885012205007_1.5nF
pins: 1, 2

## 885012205008
designator C?, comment 2.2nF
WCAP-CSGP Multilayer Ceramic Chip Capacitor, General Purpose, size 0402, X7R, 2.2nF, 10V; Manufacturer Part Number: 885012205008; Manufacturer: Wurth Elektronik; Case/Size Code: 0402; Capacitance Tolerance: +/-10%; Dissipation Factor: 5%; Insulation Resistance: 10GΩ; Technical Reference: X7R0402222K010DFCT10000; Category: Multilayer Ceramic Chip Capacitors; Match Code: WCAP-CSGP; ComponentLink1Description: Website Link; ComponentLink1URL: https://www.we-online.com/redexpert/article/885012205008?ad; ComponentLink2Description: Datasheet Link; ComponentLink2URL: https://www.we-online.com/redexpert/spec/885012205008?ad; Mount: Surface Mount; Min Operating Temperature: -55°C; Max Operating Temperature: 125°C; Packaging: Tape and Reel; Length: 1mm; Width: 0.5mm; Height: 0.5mm; Capacitance: 2.2nF; Ceramic Type: X7R; Rated Voltage (DC): 10V
footprint WCAP-CSGP_0402_L1W0.5H0.5
simulation model 0402_885012205008_2.2nF
pins: 1, 2

## 885012205009
designator C?, comment 3.3nF
WCAP-CSGP Multilayer Ceramic Chip Capacitor, General Purpose, size 0402, X7R, 3.3nF, 10V; Manufacturer Part Number: 885012205009; Manufacturer: Wurth Elektronik; Case/Size Code: 0402; Capacitance Tolerance: +/-10%; Dissipation Factor: 5%; Insulation Resistance: 10GΩ; Technical Reference: X7R0402332K010DFCT10000; Category: Multilayer Ceramic Chip Capacitors; Match Code: WCAP-CSGP; ComponentLink1Description: Website Link; ComponentLink1URL: https://www.we-online.com/redexpert/article/885012205009?ad; ComponentLink2Description: Datasheet Link; ComponentLink2URL: https://www.we-online.com/redexpert/spec/885012205009?ad; Mount: Surface Mount; Min Operating Temperature: -55°C; Max Operating Temperature: 125°C; Packaging: Tape and Reel; Length: 1mm; Width: 0.5mm; Height: 0.5mm; Capacitance: 3.3nF; Ceramic Type: X7R; Rated Voltage (DC): 10V
footprint WCAP-CSGP_0402_L1W0.5H0.5
simulation model 0402_885012205009_3.3nF
pins: 1, 2

## 885012205010
designator C?, comment 4.7nF
WCAP-CSGP Multilayer Ceramic Chip Capacitor, General Purpose, size 0402, X7R, 4.7nF, 10V; Manufacturer Part Number: 885012205010; Manufacturer: Wurth Elektronik; Case/Size Code: 0402; Capacitance Tolerance: +/-10%; Dissipation Factor: 5%; Insulation Resistance: 10GΩ; Technical Reference: X7R0402472K010DFCT10000; Category: Multilayer Ceramic Chip Capacitors; Match Code: WCAP-CSGP; ComponentLink1Description: Website Link; ComponentLink1URL: https://www.we-online.com/redexpert/article/885012205010?ad; ComponentLink2Description: Datasheet Link; ComponentLink2URL: https://www.we-online.com/redexpert/spec/885012205010?ad; Mount: Surface Mount; Min Operating Temperature: -55°C; Max Operating Temperature: 125°C; Packaging: Tape and Reel; Length: 1mm; Width: 0.5mm; Height: 0.5mm; Capacitance: 4.7nF; Ceramic Type: X7R; Rated Voltage (DC): 10V
footprint WCAP-CSGP_0402_L1W0.5H0.5
simulation model 0402_885012205010_4.7nF
pins: 1, 2

## 885012205011
designator C?, comment 6.8nF
WCAP-CSGP Multilayer Ceramic Chip Capacitor, General Purpose, size 0402, X7R, 6.8nF, 10V; Manufacturer Part Number: 885012205011; Manufacturer: Wurth Elektronik; Case/Size Code: 0402; Capacitance Tolerance: +/-10%; Dissipation Factor: 5%; Insulation Resistance: 10GΩ; Technical Reference: X7R0402682K010DFCT10000; Category: Multilayer Ceramic Chip Capacitors; Match Code: WCAP-CSGP; ComponentLink1Description: Website Link; ComponentLink1URL: https://www.we-online.com/redexpert/article/885012205011?ad; ComponentLink2Description: Datasheet Link; ComponentLink2URL: https://www.we-online.com/redexpert/spec/885012205011?ad; Mount: Surface Mount; Min Operating Temperature: -55°C; Max Operating Temperature: 125°C; Packaging: Tape and Reel; Length: 1mm; Width: 0.5mm; Height: 0.5mm; Capacitance: 6.8nF; Ceramic Type: X7R; Rated Voltage (DC): 10V
footprint WCAP-CSGP_0402_L1W0.5H0.5
simulation model 0402_885012205011_6.8nF
pins: 1, 2